# EAGLE library part ONCORE_V1 (library 000001)
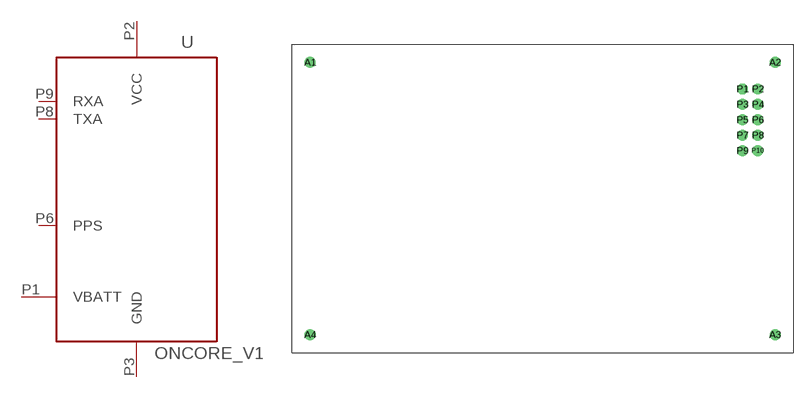
[diagram p116: symbol with the pads of ONCORE_V1; footprint ONCORE_V1]

Designator prefix -

## ONCORE_V1  [ONCORE_V1]
P1  VBATT  pwr
P2  VCC  pwr
P3  GND  pwr
P6  PPS  out
P8  TXA  out
P9  RXA  in

## Footprint ONCORE_V1 (pad centres in mm)
drill 0.5 pad 1.778 round: A1 -72.44,9.45; A2 4.11,9.45; A3 4.11,-35.35; A4 -72.44,-35.35; P2 1.27,5.08; P3 -1.27,2.54; P4 1.27,2.54; P5 -1.27,0; P6 1.27,0; P7 -1.27,-2.54; P8 1.27,-2.54; P9 -1.27,-5.08; P10 1.27,-5.08
drill 0.5 pad 1.778 octagon: P1 -1.27,5.08